# Altium footprint library CHXXX.pcblib: 142 footprints (part 6 of 9)
Each footprint in its own frame and in the unit in brackets; x right, y up, seen from the top. Pads: shape width x height; smd on the part's side, far side on the other; paste and mask are expansions set on the pad; w line width, h text height; cw(c..) or ccw(c..) is an arc to the next point about the centre after c.
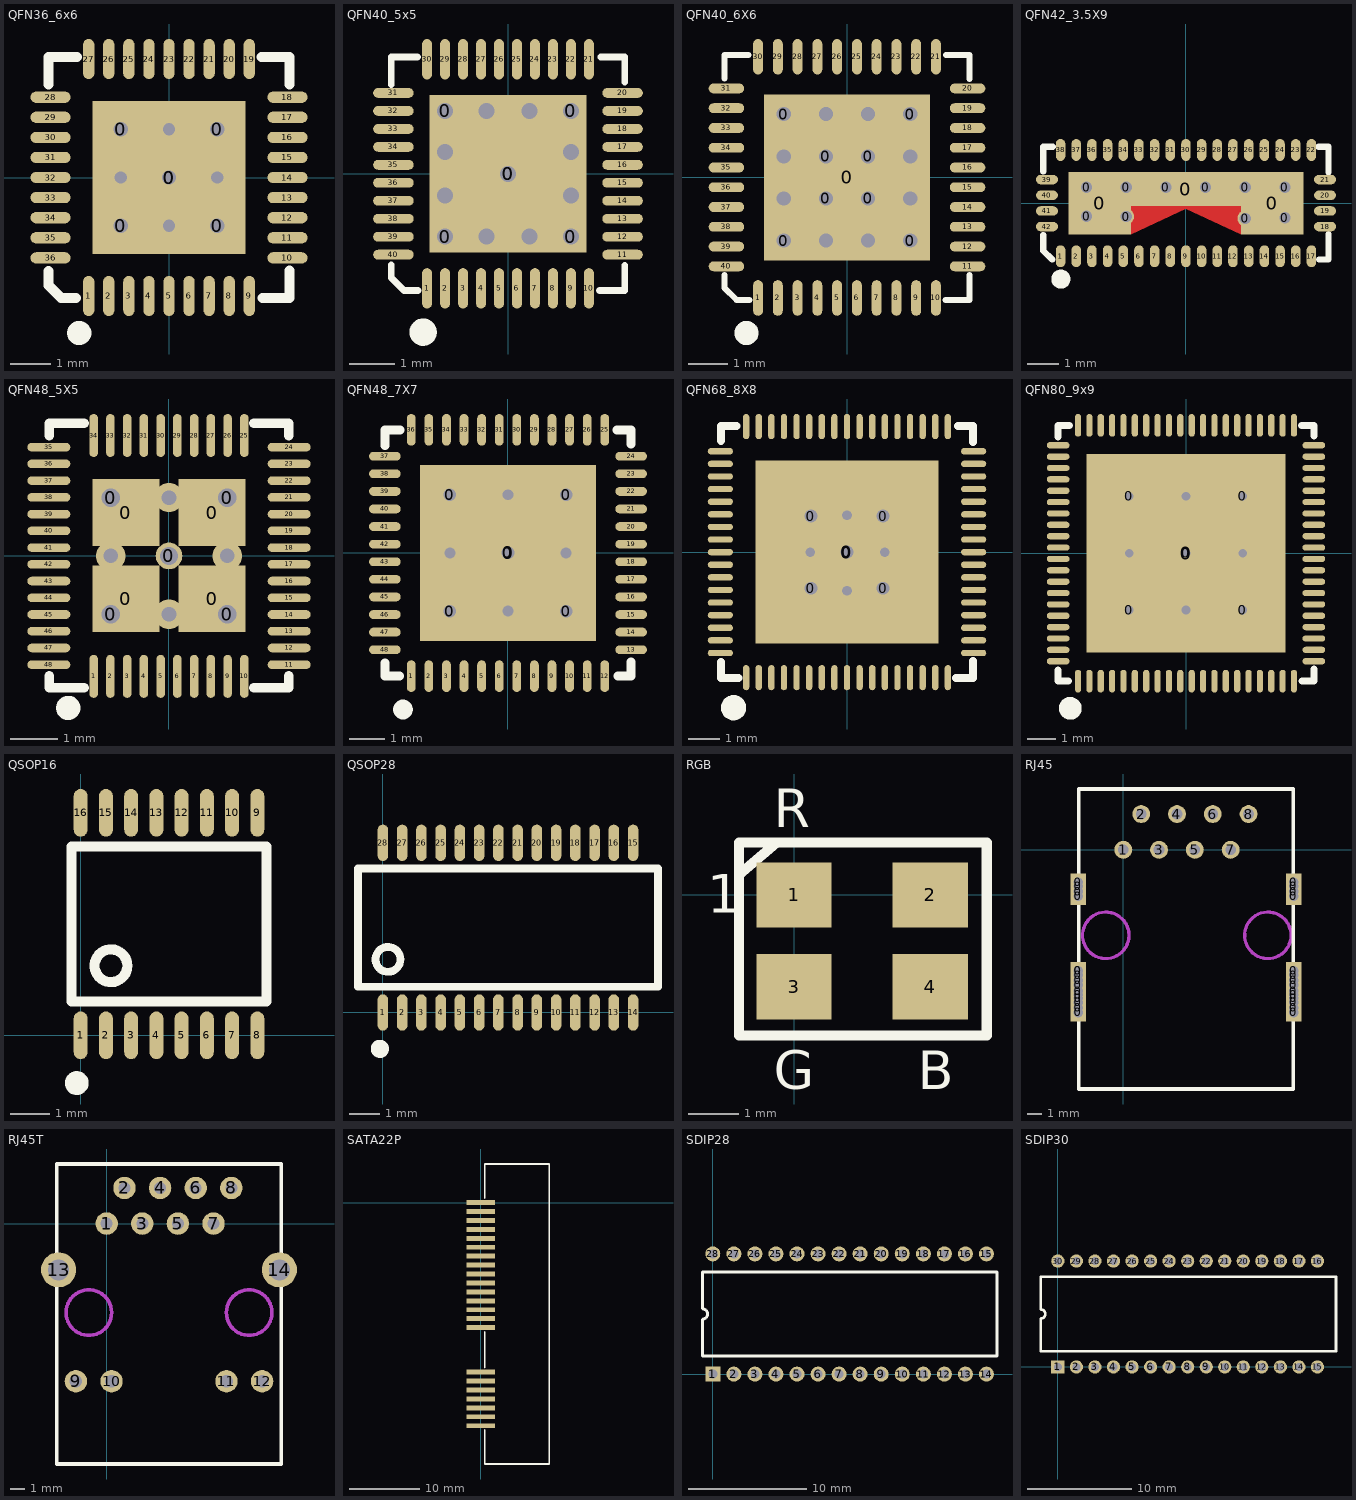
[diagram p5: the footprints below, top view; thin cyan lines are the x and y axes]

## QFN36_6x6 [mm]
pads (42):
  round 0.711 hole 0.356: 0(-1.2,-1.2) 0(-1.2,1.2) 0(0,0) 0(1.2,-1.2) 0(1.2,1.2)
  rect 3.8x3.8 smd: 0(0,0)
  oval 0.28x1 smd mask+0.051: 1(-2,-2.95) 2(-1.5,-2.95) 3(-1,-2.95) 4(-0.5,-2.95) 5(0,-2.95) 6(0.5,-2.95) 7(1,-2.95) 8(1.5,-2.95) 9(2,-2.95) 19(2,2.95) 20(1.5,2.95) 21(1,2.95) 22(0.5,2.95) 23(0,2.95) 24(-0.5,2.95) 25(-1,2.95) 26(-1.5,2.95) 27(-2,2.95)
  oval 1x0.28 smd mask+0.051: 10(2.95,-2) 11(2.95,-1.5) 12(2.95,-1) 13(2.95,-0.5) 14(2.95,0) 15(2.95,0.5) 16(2.95,1) 17(2.95,1.5) 18(2.95,2) 28(-2.95,2) 29(-2.95,1.5) 30(-2.95,1) 31(-2.95,0.5) 32(-2.95,0) 33(-2.95,-0.5) 34(-2.95,-1) 35(-2.95,-1.5) 36(-2.95,-2)
via 1.2,0 diameter 0.61 hole 0.305
via 0,-1.2 diameter 0.61 hole 0.305
via -1.2,0 diameter 0.61 hole 0.305
via 0,1.2 diameter 0.61 hole 0.305
TopOverlay:
  circle w0.305: c-2.235,-3.873 r0.148
  lines w0.254: -3,-2.328 -3,-2.684 -2.684,-3 -2.316,-3 ; -3,2.324 -3,3 -2.297,3 ; 2.311,3 3,3 3,2.317 ; 2.33,-3 3,-3 3,-2.315

## QFN40_5x5 [mm]
pads (46):
  round 0.559 hole 0.356 mask+0.102: 0(-1.4,-1.4) 0(-1.4,1.4) 0(0,0) 0(1.4,-1.4) 0(1.4,1.4)
  rect 3.5x3.5 smd mask+0.051: 0(0,0)
  oval 0.22x0.9 smd mask+0.051: 1(-1.8,-2.55) 2(-1.4,-2.55) 3(-1,-2.55) 4(-0.6,-2.55) 5(-0.2,-2.55) 6(0.2,-2.55) 7(0.6,-2.55) 8(1,-2.55) 9(1.4,-2.55) 10(1.8,-2.55) 21(1.8,2.55) 22(1.4,2.55) 23(1,2.55) 24(0.6,2.55) 25(0.2,2.55) 26(-0.2,2.55) 27(-0.6,2.55) 28(-1,2.55) 29(-1.4,2.55) 30(-1.8,2.55)
  oval 0.9x0.22 smd mask+0.051: 11(2.55,-1.8) 12(2.55,-1.4) 13(2.55,-1) 14(2.55,-0.6) 15(2.55,-0.2) 16(2.55,0.2) 17(2.55,0.6) 18(2.55,1) 19(2.55,1.4) 20(2.55,1.8) 31(-2.55,1.8) 32(-2.55,1.4) 33(-2.55,1) 34(-2.55,0.6) 35(-2.55,0.2) 36(-2.55,-0.2) 37(-2.55,-0.6) 38(-2.55,-1) 39(-2.55,-1.4) 40(-2.55,-1.8)
via -1.4,-0.483 diameter 0.61 hole 0.356
via -1.4,0.483 diameter 0.61 hole 0.356
via -0.483,-1.4 diameter 0.61 hole 0.356
via 0.483,-1.4 diameter 0.61 hole 0.356
via 1.4,-0.483 diameter 0.61 hole 0.356
via 1.4,0.483 diameter 0.61 hole 0.356
via 0.483,1.4 diameter 0.61 hole 0.356
via -0.483,1.4 diameter 0.61 hole 0.356
TopOverlay:
  circle w0.305: c-1.89,-3.524 r0.152
  lines w0.152: -2.6,-2.025 -2.6,-2.311 -2.316,-2.6 -2.004,-2.6 ; -2.6,1.988 -2.6,2.6 -2.011,2.6 ; 2.038,-2.6 2.6,-2.6 2.6,-2.043 ; 2.065,2.6 2.6,2.6 2.6,2.039

## QFN40_6X6 [mm]
pads (49):
  round 0.508 hole 0.356 mask+0.102: 0(-1.6,-1.6) 0(-1.6,1.6) 0(-0.533,-0.533) 0(-0.533,0.533) 0(0.533,-0.533) 0(0.533,0.533) 0(1.6,-1.6) 0(1.6,1.6)
  rect 4.2x4.2 smd mask+0.051: 0(0,0)
  oval 0.25x0.9 smd mask+0.051: 1(-2.25,-3.05) 2(-1.75,-3.05) 3(-1.25,-3.05) 4(-0.75,-3.05) 5(-0.25,-3.05) 6(0.25,-3.05) 7(0.75,-3.05) 8(1.25,-3.05) 9(1.75,-3.05) 10(2.25,-3.05) 21(2.25,3.05) 22(1.75,3.05) 23(1.25,3.05) 24(0.75,3.05) 25(0.25,3.05) 26(-0.25,3.05) 27(-0.75,3.05) 28(-1.25,3.05) 29(-1.75,3.05) 30(-2.25,3.05)
  oval 0.9x0.25 smd mask+0.051: 11(3.05,-2.25) 12(3.05,-1.75) 13(3.05,-1.25) 14(3.05,-0.75) 15(3.05,-0.25) 16(3.05,0.25) 17(3.05,0.75) 18(3.05,1.25) 19(3.05,1.75) 20(3.05,2.25) 31(-3.05,2.25) 32(-3.05,1.75) 33(-3.05,1.25) 34(-3.05,0.75) 35(-3.05,0.25) 36(-3.05,-0.25) 37(-3.05,-0.75) 38(-3.05,-1.25) 39(-3.05,-1.75) 40(-3.05,-2.25)
via -0.533,1.6 diameter 0.508 hole 0.356
via 0.533,1.6 diameter 0.508 hole 0.356
via 1.6,0.533 diameter 0.508 hole 0.356
via 1.6,-0.533 diameter 0.508 hole 0.356
via 0.533,-1.6 diameter 0.508 hole 0.356
via -0.533,-1.6 diameter 0.508 hole 0.356
via -1.6,0.533 diameter 0.508 hole 0.356
via -1.6,-0.533 diameter 0.508 hole 0.356
TopOverlay:
  circle w0.305: c-2.541,-3.936 r0.152
  lines w0.152: -3.1,-2.79 -3.1,-2.794 ; -3.1,-2.466 -3.1,-2.794 ; -3.1,2.501 -3.1,3.1 -2.493,3.1 ; -2.467,-3.1 -2.794,-3.1 -3.1,-2.794 ; 2.491,-3.1 3.1,-3.1 3.1,-2.476 ; 2.502,3.1 3.1,3.1 3.1,2.484

## QFN42_3.5X9 [mm]
pads (55):
  round 0.508 hole 0.356 mask+0: 0(-3.176,-0.419) 0(-3.176,0.504) 0(-1.909,-0.429) 0(-1.909,0.504) 0(-0.642,0.504) 0(0.625,0.504) 0(1.892,-0.49) 0(1.892,0.504) 0(3.159,-0.469) 0(3.159,0.504)
  rect 2x2 smd: 0(-2.75,0) 0(2.75,0)
  rect 7.5x1.1 smd: 0(-0.002,0.45)
  oval 0.3x0.7 smd mask+0.051: 1(-4.002,-1.697) 2(-3.502,-1.697) 3(-3.002,-1.697) 4(-2.502,-1.697) 5(-2.002,-1.697) 6(-1.502,-1.697) 7(-1.002,-1.697) 8(-0.502,-1.697) 9(-0.002,-1.697) 10(0.498,-1.697) 11(0.998,-1.697) 12(1.498,-1.697) 13(2.002,-1.697) 14(2.502,-1.697) 15(3.002,-1.697) 16(3.502,-1.697) 17(4.002,-1.697) 22(4.002,1.697) 23(3.502,1.697) 24(3.002,1.697) 25(2.502,1.697) 26(2.002,1.697) 27(1.498,1.697) 28(0.998,1.697) 29(0.498,1.697) 30(-0.002,1.697) 31(-0.502,1.697) 32(-1.002,1.697) 33(-1.502,1.697) 34(-2.002,1.697) 35(-2.502,1.697) 36(-3.002,1.697) 37(-3.502,1.697) 38(-4.002,1.697)
  oval 0.7x0.3 smd mask+0.051: 18(4.438,-0.75) 19(4.438,-0.25) 20(4.438,0.25) 21(4.438,0.75) 39(-4.438,0.75) 40(-4.438,0.25) 41(-4.438,-0.25) 42(-4.438,-0.75)
TopLayer:
  region: 1.745,-1 1.745,0 -1.75,0 -1.75,-1 -0.002,-0.174
TopOverlay:
  circle w0.305: c-3.994,-2.425 r0.152
  lines w0.203: -4.552,-1.02 -4.552,-1.521 -4.273,-1.8 ; -4.552,1.01 -4.552,1.8 -4.25,1.8 ; 4.23,1.8 4.548,1.8 4.548,0.99 ; 4.25,-1.8 4.548,-1.8 4.548,-1
TopPaste:
  region: -1.75,-1 -0.002,-0.174 1.745,-1 2.356,-1 2.356,0 -2.36,0 -2.36,-1
TopSolder:
  region: -1.648,-1.102 -0.002,-0.323 1.644,-1.102 2.356,-1.102 2.356,0 -2.36,0 -2.36,-1.102

## QFN48_5X5 [mm]
pads (57):
  round 0.559 hole 0.381 mask+0.102: 0(-1.219,-1.219) 0(-1.219,1.219) 0(0,0) 0(1.219,-1.219) 0(1.219,1.219)
  rect 1.397x1.397 smd mask+0: 0(-0.901,-0.895) 0(-0.901,0.908) 0(0.902,-0.895) 0(0.902,0.908)
  oval 0.18x0.9 smd mask+0.051: 1(-1.575,-2.519) 2(-1.225,-2.519) 3(-0.875,-2.519) 4(-0.525,-2.519) 5(-0.175,-2.519) 6(0.175,-2.519) 7(0.525,-2.519) 8(0.875,-2.519) 9(1.225,-2.519) 10(1.575,-2.519) 25(1.575,2.519) 26(1.225,2.519) 27(0.875,2.519) 28(0.525,2.519) 29(0.175,2.519) 30(-0.175,2.519) 31(-0.525,2.519) 32(-0.875,2.519) 33(-1.225,2.519) 34(-1.575,2.519)
  oval 0.9x0.18 smd mask+0.051: 11(2.514,-2.275) 12(2.514,-1.925) 13(2.514,-1.575) 14(2.514,-1.225) 15(2.514,-0.875) 16(2.514,-0.525) 17(2.514,-0.175) 18(2.514,0.175) 19(2.514,0.525) 20(2.514,0.875) 21(2.514,1.225) 22(2.514,1.575) 23(2.514,1.925) 24(2.514,2.275) 35(-2.514,2.275) 36(-2.514,1.925) 37(-2.514,1.575) 38(-2.514,1.225) 39(-2.514,0.875) 40(-2.514,0.525) 41(-2.514,0.175) 42(-2.514,-0.175) 43(-2.514,-0.525) 44(-2.514,-0.875) 45(-2.514,-1.225) 46(-2.514,-1.575) 47(-2.514,-1.925) 48(-2.514,-2.275)
via 0,1.219 diameter 0.61 hole 0.305
via -1.219,0 diameter 0.61 hole 0.305
via 0,-1.219 diameter 0.61 hole 0.305
via 1.219,0 diameter 0.61 hole 0.305
TopOverlay:
  circle w0.254: c-2.108,-3.179 r0.127
  lines w0.2: -2.509,-2.506 -2.509,-2.76 -1.778,-2.76 ; -2.509,2.519 -2.509,2.772 -1.778,2.772 ; 1.778,-2.76 2.509,-2.76 2.509,-2.506 ; 1.778,2.772 2.509,2.772 2.509,2.519

## QFN48_7X7 [mm]
pads (54):
  round 0.559 hole 0.356 mask+0.102: 0(-1.651,-1.651) 0(-1.651,1.651) 0(0,0) 0(1.651,-1.651) 0(1.651,1.651)
  rect 5x5 smd mask+0.051: 0(0,0)
  oval 0.25x0.9 smd mask+0.051: 1(-2.75,-3.5) 2(-2.25,-3.5) 3(-1.75,-3.5) 4(-1.25,-3.5) 5(-0.75,-3.5) 6(-0.25,-3.5) 7(0.25,-3.5) 8(0.75,-3.5) 9(1.25,-3.5) 10(1.75,-3.5) 11(2.25,-3.5) 12(2.75,-3.5) 25(2.75,3.5) 26(2.25,3.5) 27(1.75,3.5) 28(1.25,3.5) 29(0.75,3.5) 30(0.25,3.5) 31(-0.25,3.5) 32(-0.75,3.5) 33(-1.25,3.5) 34(-1.75,3.5) 35(-2.25,3.5) 36(-2.75,3.5)
  oval 0.9x0.25 smd mask+0.051: 13(3.5,-2.75) 14(3.5,-2.25) 15(3.5,-1.75) 16(3.5,-1.25) 17(3.5,-0.75) 18(3.5,-0.25) 19(3.5,0.25) 20(3.5,0.75) 21(3.5,1.25) 22(3.5,1.75) 23(3.5,2.25) 24(3.5,2.75) 37(-3.5,2.75) 38(-3.5,2.25) 39(-3.5,1.75) 40(-3.5,1.25) 41(-3.5,0.75) 42(-3.5,0.25) 43(-3.5,-0.25) 44(-3.5,-0.75) 45(-3.5,-1.25) 46(-3.5,-1.75) 47(-3.5,-2.25) 48(-3.5,-2.75)
via 0,-1.651 diameter 0.61 hole 0.305
via 1.651,0 diameter 0.61 hole 0.305
via 0,1.651 diameter 0.61 hole 0.305
via -1.651,0 diameter 0.61 hole 0.305
TopOverlay:
  circle w0.305: c-2.986,-4.451 r0.127
  lines w0.254: -3.5,-3.128 -3.5,-3.5 -3.082,-3.5 ; -3.5,3.057 -3.5,3.5 -3.066,3.5 ; 3.099,3.5 3.5,3.5 3.5,3.096 ; 3.126,-3.5 3.5,-3.5 3.5,-3.104

## QFN68_8X8 [mm]
pads (74):
  round 0.559 hole 0.406: 0(-1.143,-1.143) 0(-1.143,1.143) 0(0,0) 0(1.143,-1.143) 0(1.143,1.143)
  rect 5.8x5.8 smd mask+0.051: 0(0,0)
  oval 0.2x0.8 smd mask+0.051: 1(-3.2,-3.982) 2(-2.8,-3.982) 3(-2.4,-3.982) 4(-2,-3.982) 5(-1.6,-3.982) 6(-1.2,-3.982) 7(-0.8,-3.982) 8(-0.4,-3.982) 9(0,-3.982) 10(0.4,-3.982) 11(0.8,-3.982) 12(1.2,-3.982) 13(1.6,-3.982) 14(2,-3.982) 15(2.4,-3.982) 16(2.8,-3.982) 17(3.2,-3.982) 35(3.2,3.982) 36(2.8,3.982) 37(2.4,3.982) 38(2,3.982) 39(1.6,3.982) 40(1.2,3.982) 41(0.8,3.982) 42(0.4,3.982) 43(0,3.982) 44(-0.4,3.982) 45(-0.8,3.982) 46(-1.2,3.982) 47(-1.6,3.982) 48(-2,3.982) 49(-2.4,3.982) 50(-2.8,3.982) 51(-3.2,3.982)
  oval 0.8x0.2 smd mask+0.051: 18(4.018,-3.2) 19(4.018,-2.8) 20(4.018,-2.4) 21(4.018,-2) 22(4.018,-1.6) 23(4.018,-1.2) 24(4.018,-0.8) 25(4.018,-0.4) 26(4.018,0) 27(4.018,0.4) 28(4.018,0.8) 29(4.018,1.2) 30(4.018,1.6) 31(4.018,2) 32(4.018,2.4) 33(4.018,2.8) 34(4.018,3.2) 52(-4.018,3.2) 53(-4.018,2.8) 54(-4.018,2.4) 55(-4.018,2) 56(-4.018,1.6) 57(-4.018,1.2) 58(-4.018,0.8) 59(-4.018,0.4) 60(-4.018,0) 61(-4.018,-0.4) 62(-4.018,-0.8) 63(-4.018,-1.2) 64(-4.018,-1.6) 65(-4.018,-2) 66(-4.018,-2.4) 67(-4.018,-2.8) 68(-4.018,-3.2)
via 0,1.168 diameter 0.61 hole 0.305
via -1.168,0 diameter 0.61 hole 0.305
via 0,-1.219 diameter 0.61 hole 0.305
via 1.194,0 diameter 0.61 hole 0.305
TopOverlay:
  circle w0.4: c-3.599,-4.935 r0.2
  lines w0.254: -4,-3.492 -4,-4 -3.447,-4 ; -4,3.534 -4,4 -3.503,4 ; 3.459,-4 4,-4 4,-3.458 ; 3.517,4 4,4 4,3.498

## QFN80_9x9 [mm]
pads (86):
  round 0.61 hole 0.305 mask+0.051: 0(-2,-2) 0(-2,2) 0(0,0) 0(2,-2) 0(2,2)
  rect 7x7 smd mask+0.051: 0(0,0)
  oval 0.22x0.8 smd mask+0.051: 1(-3.8,-4.5) 2(-3.4,-4.5) 3(-3,-4.5) 4(-2.6,-4.5) 5(-2.2,-4.5) 6(-1.8,-4.5) 7(-1.4,-4.5) 8(-1,-4.5) 9(-0.6,-4.5) 10(-0.2,-4.5) 11(0.2,-4.5) 12(0.6,-4.5) 13(1,-4.5) 14(1.4,-4.5) 15(1.8,-4.5) 16(2.2,-4.5) 17(2.6,-4.5) 18(3,-4.5) 19(3.4,-4.5) 20(3.8,-4.5) 41(3.8,4.5) 42(3.4,4.5) 43(3,4.5) 44(2.6,4.5) 45(2.2,4.5) 46(1.8,4.5) 47(1.4,4.5) 48(1,4.5) 49(0.6,4.5) 50(0.2,4.5) 51(-0.2,4.5) 52(-0.6,4.5) 53(-1,4.5) 54(-1.4,4.5) 55(-1.8,4.5) 56(-2.2,4.5) 57(-2.6,4.5) 58(-3,4.5) 59(-3.4,4.5) 60(-3.8,4.5)
  oval 0.8x0.22 smd mask+0.051: 21(4.5,-3.8) 22(4.5,-3.4) 23(4.5,-3) 24(4.5,-2.6) 25(4.5,-2.2) 26(4.5,-1.8) 27(4.5,-1.4) 28(4.5,-1) 29(4.5,-0.6) 30(4.5,-0.2) 31(4.5,0.2) 32(4.5,0.6) 33(4.5,1) 34(4.5,1.4) 35(4.5,1.8) 36(4.5,2.2) 37(4.5,2.6) 38(4.5,3) 39(4.5,3.4) 40(4.5,3.8) 61(-4.5,3.8) 62(-4.5,3.4) 63(-4.5,3) 64(-4.5,2.6) 65(-4.5,2.2) 66(-4.5,1.8) 67(-4.5,1.4) 68(-4.5,1) 69(-4.5,0.6) 70(-4.5,0.2) 71(-4.5,-0.2) 72(-4.5,-0.6) 73(-4.5,-1) 74(-4.5,-1.4) 75(-4.5,-1.8) 76(-4.5,-2.2) 77(-4.5,-2.6) 78(-4.5,-3) 79(-4.5,-3.4) 80(-4.5,-3.8)
via 0,2 diameter 0.61 hole 0.305
via 2,0 diameter 0.61 hole 0.305
via 0,-2 diameter 0.61 hole 0.305
via -2,0 diameter 0.61 hole 0.305
TopOverlay:
  circle w0.4: c-4.073,-5.457 r0.2
  lines w0.254: -4.5,-4.121 -4.5,-4.5 -4.135,-4.5 ; -4.5,4.095 -4.5,4.5 -4.095,4.5 ; 4.069,4.5 4.5,4.5 4.5,4.137 ; 4.082,-4.5 4.5,-4.5 4.5,-4.079

## QSOP16 [mm]
pads (16):
  oval 0.35x1.2 smd mask+0.051: 1(0,0) 2(0.635,0) 3(1.27,0) 4(1.905,0) 5(2.54,0) 6(3.175,0) 7(3.81,0) 8(4.445,0) 9(4.445,5.6) 10(3.81,5.6) 11(3.175,5.6) 12(2.54,5.6) 13(1.905,5.6) 14(1.27,5.6) 15(0.635,5.6) 16(0,5.6)
TopOverlay:
  circle w0.254: c0.762,1.752 r0.412
  circle w0.3: c-0.1,-1.2 r0.15
  lines w0.254: -0.227,0.85 4.673,0.85 4.673,4.75 -0.227,4.75 -0.227,0.85

## QSOP28 [mm]
pads (28):
  oval 0.35x1.2 smd mask+0.051: 1(0,0) 2(0.635,0) 3(1.27,0) 4(1.905,0) 5(2.54,0) 6(3.175,0) 7(3.81,0) 8(4.445,0) 9(5.08,0) 10(5.715,0) 11(6.35,0) 12(6.985,0) 13(7.62,0) 14(8.255,0) 15(8.255,5.6) 16(7.62,5.6) 17(6.985,5.6) 18(6.35,5.6) 19(5.715,5.6) 20(5.08,5.6) 21(4.445,5.6) 22(3.81,5.6) 23(3.175,5.6) 24(2.54,5.6) 25(1.905,5.6) 26(1.27,5.6) 27(0.635,5.6) 28(0,5.6)
TopOverlay:
  circle w0.254: c0.167,1.752 r0.412
  circle w0.3: c-0.1,-1.2 r0.15
  lines w0.254: -0.823,0.85 9.078,0.85 9.078,4.75 -0.823,4.75 -0.823,0.85

## RGB [mm]
pads (4):
  rect 1.5x1.3 smd: 1(0,0) 2(2.71,0) 3(0,-1.825) 4(2.71,-1.825)
TopOverlay:
  lines w0.203: -1.09,0.404 -0.352,1.037 ; -1.092,-2.794 3.835,-2.794 3.835,1.041 -1.092,1.041 -1.092,-2.794
  text "B" at 2.464,-3.861 h0.76
  text "G" at -0.406,-3.861 h0.76
  text "R" at -0.406,1.346 h0.76
  text "1" at -1.727,-0.356 h0.76

## RJ45 [mm]
pads (37):
  rect 1.1x1.27 hole 0.701: 0(-3.2,-11.541) 0(-3.2,-11.212) 0(-3.2,-10.831) 0(-3.2,-10.541) 0(-3.2,-10.287) 0(-3.2,-10.033) 0(-3.2,-9.6) 0(-3.2,-9.271) 0(-3.2,-8.89) 0(-3.2,-8.6) 0(-3.2,-8.6) 0(-3.2,-3.3) 0(-3.2,-2.971) 0(-3.2,-2.59) 0(-3.2,-2.3) 0(12.1,-11.541) 0(12.1,-11.212) 0(12.1,-10.831) 0(12.1,-10.541) 0(12.1,-10.287) 0(12.1,-10.033) 0(12.1,-9.6) 0(12.1,-9.271) 0(12.1,-8.89) 0(12.1,-8.6) 0(12.1,-3.3) 0(12.1,-2.971) 0(12.1,-2.59) 0(12.1,-2.3)
  round 1.27 hole 0.762: 1(0,0) 2(1.27,2.54) 3(2.54,0) 4(3.81,2.54) 5(5.08,0) 6(6.35,2.54) 7(7.62,0) 8(8.89,2.54)
TopOverlay:
  lines w0.254: 12.065,-13.335 12.065,4.318 ; 12.065,4.318 -3.175,4.318 -3.175,-16.982 12.065,-16.982 12.065,4.318
KeepOutLayer:
  circle w0.229: c10.262,-6.071 r1.651
  circle w0.229: c-1.245,-6.071 r1.651
Mechanical1:
  circle w0.229: c10.262,-6.071 r1.651
  circle w0.229: c-1.245,-6.071 r1.651

## RJ45T [mm]
pads (14):
  round 1.6 hole 0.85: 1(0,0) 2(1.27,2.54) 3(2.54,0) 4(3.81,2.54) 5(5.08,0) 6(6.35,2.54) 7(7.62,0) 8(8.89,2.54)
  round 1.6 hole 0.9: 9(-2.195,-11.25) 10(0.345,-11.25) 11(8.545,-11.25) 12(11.085,-11.25)
  round 2.5 hole 1.5: 13(-3.43,-3.3) 14(12.32,-3.3)
TopOverlay:
  lines w0.254: -3.555,-17.15 -3.555,4.25 12.445,4.25 12.445,-17.15 -3.555,-17.15
KeepOutLayer:
  circle w0.254: c10.16,-6.35 r1.625
  circle w0.254: c-1.27,-6.35 r1.625
Mechanical1:
  circle w0.254: c10.16,-6.35 r1.625
  circle w0.254: c-1.27,-6.35 r1.625

## SATA22P [mm]
pads (22):
  rect 4x0.7 smd: 1(0,0) 2(0,-1.27) 3(0,-2.54) 4(0,-3.81) 5(0,-5.08) 6(0,-6.35) 7(0,-7.62) 8(0,-8.89) 9(0,-10.16) 10(0,-11.43) 11(0,-12.7) 12(0,-13.97) 13(0,-15.24) 14(0,-16.51) 15(0,-17.78) 16(0,-24.13) 17(0,-25.4) 18(0,-26.67) 19(0,-27.94) 20(0,-29.21) 21(0,-30.48) 22(0,-31.75)
TopOverlay:
  lines w0.254: 0.551,-32.376 0.551,-37.2 9.751,-37.2 9.751,5.5 0.551,5.5 0.551,0.676 ; 0.551,-23.5 0.551,-18.425

## SDIP28 [mil]
pads (28):
  rect 50x50 hole 30: 1(0,0)
  round 50 hole 30: 2(70,0) 3(140,0) 4(210,0) 5(280,0) 6(350,0) 7(420,0) 8(490,0) 9(560,0) 10(630,0) 11(700,0) 12(770,0) 13(840,0) 14(910,0) 15(910,400) 16(840,400) 17(770,400) 18(700,400) 19(630,400) 20(560,400) 21(490,400) 22(420,400) 23(350,400) 24(280,400) 25(210,400) 26(140,400) 27(70,400) 28(0,400)
TopOverlay:
  lines w10: -35,60 -35,182.5 ccw(c-35,200) -35,217.5 -35,340 945,340 945,60 -35,60

## SDIP30 [mil]
pads (30):
  rect 50x50 hole 30: 1(0,0)
  round 50 hole 30: 2(70,0) 3(140,0) 4(210,0) 5(280,0) 6(350,0) 7(420,0) 8(490,0) 9(560,0) 10(630,0) 11(700,0) 12(770,0) 13(840,0) 14(910,0) 15(980,0) 16(980,400) 17(910,400) 18(840,400) 19(770,400) 20(700,400) 21(630,400) 22(560,400) 23(490,400) 24(420,400) 25(350,400) 26(280,400) 27(210,400) 28(140,400) 29(70,400) 30(0,400)
TopOverlay:
  lines w10: -65,60 1050,60 1050,340 -65,340 -65,217.5 cw(c-65,200) -65,182.5 -65,60